# Altium footprint library ESP8266.PcbLib: 1 footprints
Each footprint in its own frame and in the unit in brackets; x right, y up, seen from the top. Pads: shape width x height; smd on the part's side, far side on the other; paste and mask are expansions set on the pad; w line width, h text height; cw(c..) or ccw(c..) is an arc to the next point about the centre after c.
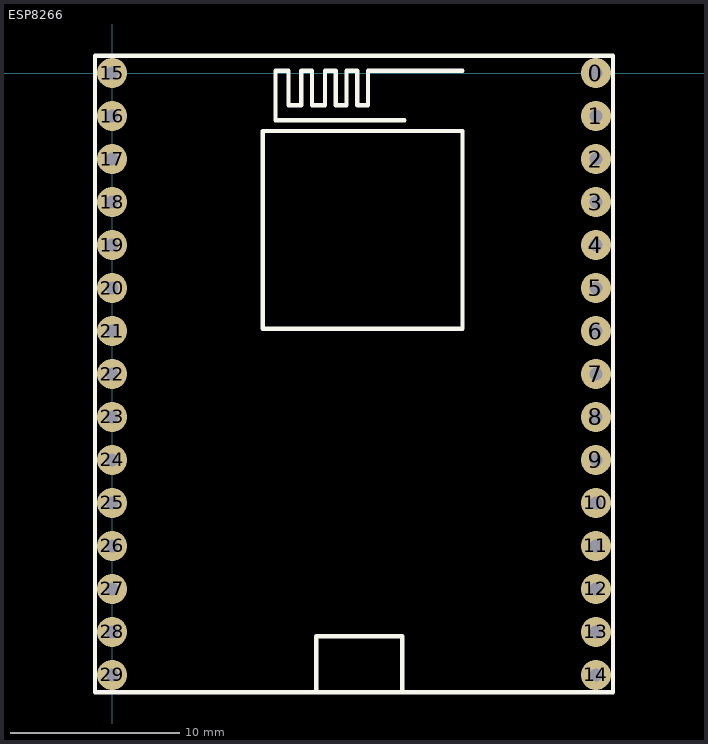
[diagram p0: the footprint, top view; thin cyan lines are the x and y axes]

## ESP8266 [mil]
pads (30):
  round 70 hole 30: 0(1125,0) 1(1125,-100) 2(1125,-200) 3(1125,-300) 4(1125,-400) 5(1125,-500) 6(1125,-600) 7(1125,-700) 8(1125,-800) 9(1125,-900) 10(1125,-1000) 11(1125,-1100) 12(1125,-1200) 13(1125,-1300) 14(1125,-1400) 15(0,0) 16(0,-100) 17(0,-200) 18(0,-300) 19(0,-400) 20(0,-500) 21(0,-600) 22(0,-700) 23(0,-800) 24(0,-900) 25(0,-1000) 26(0,-1100) 27(0,-1200) 28(0,-1300) 29(0,-1400)
Top Overlay:
  lines w10: 475,-1440 475,-1310 675,-1310 675,-1440 ; 520,-22.5 520,-60 ; 680,-110 380,-110 380,5 410,5 410,-75 440,-75 440,5 465,5 465,-75 495,-75 495,5 520,5 520,-60 ; 815,5 595,5 595,-75 570,-75 570,5 545,5 545,-75 520,-75 520,-60 ; -40,-1440 1165,-1440 1165,40 -40,40 -40,-1440 ; 350,-595 350,-135 815,-135 815,-595 350,-595
3D body: height 10, standoff 0, extent -35,-1435 1160,35